# Altium schematic symbol library Main_components.SchLib: 9 symbols
Pins are listed as number, name and electrical type; pins without a type are passive.

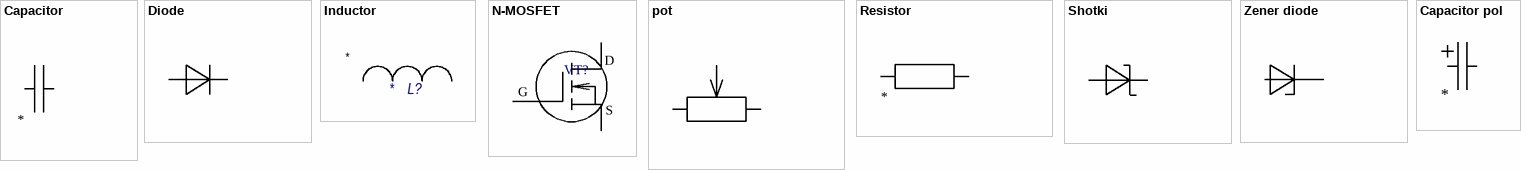
[diagram p0: symbols Capacitor to Сapacitor pol]

## Capacitor
designator C?
ComponentLink1Description: Product link; ComponentLink1URL: *; Value: *
footprint 1210C
footprint 1812С
footprint 2220С
footprint C0402C
footprint C0603C
footprint C0805C
footprint C0805C
footprint C1206C
pins: 1, 2

## Diode
designator VD?
ComponentLink1Description: Product link
footprint D0-124AC
footprint DO214AB
footprint DO-214AA
footprint SOD123
footprint SOD323
pins: A, C

## Inductor
designator L?
Product link: *; Value: *
footprint 1210C
pins: 1, 2
1 alternate drawing of the same symbol

## N-MOSFET
designator VT?  (value not drawn)
footprint TO247-1
footprint TO247-2
pins: D, G, S

## pot
designator R?
ComponentLink1Description: Product link
footprint 3296W
pins: 1, 2, 3

## Resistor
designator R?
ComponentLink1Description: Product link; ComponentLink1URL: *; Power: *; Value: *
footprint 2512R
footprint 2816R
footprint C0402R
footprint C0603R
footprint C0805R
footprint C1206R
pins: 1, 2

## Shotki
designator VD?
ComponentLink1Description: Product link
footprint D0-124AC
footprint DO-214AA
footprint DO214AB
footprint SOD123
footprint SOD323
pins: A, C

## Zener diode
designator VD?
ComponentLink1Description: Product link; ComponentLink1URL: *
footprint D0-124AC
footprint DO214AB
footprint DO-214AA
footprint SOD123
footprint SOD323
pins: A, C

## Сapacitor pol
designator C?
ComponentLink1Description: Product link; ComponentLink1URL: *; Type: *; value: *
footprint CAP-3.5-8
footprint CAP-5-10
footprint CAP-5-12.5
footprint CAP-10
footprint CAP-6.3-11.2
footprint CAP-2-5
footprint CAP-7.5-18
pins: 1, 2